# Altium schematic symbol library LSM6DSO.SchLib: 1 symbol
Pins are listed as number, name and electrical type; pins without a type are passive.

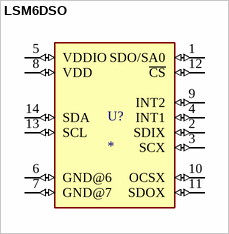
[diagram p0: symbol LSM6DSO]

## LSM6DSO
designator U?
SPARKFUN 6 DEGREES OF FREEDOM BR; MF: STMicroelectronics; MP: LSM6DSO; SnapEDA_Link: https://www.snapeda.com/parts/LSM6DSO/STMicroelectronics/view-part/?ref=snap; Purchase-URL: https://pricing.snapeda.com/search/part/LSM6DSO/?ref=eda; Price: None; Availability: In Stock; Package: None; Check_prices: https://www.snapeda.com/parts/LSM6DSO/STMicroelectronics/view-part/?ref=eda; Value: *
footprint LGA14L
pins: 1 SDO/SA0 (io), 2 SDIX (io), 3 SCX (io), 4 INT1 (io), 5 VDDIO (io), 6 GND@6 (io), 7 GND@7 (io), 8 VDD (io), 9 INT2 (io), 10 OCSX (io), 11 SDOX (io), 12 ~{CS} (io), 13 SCL (io), 14 SDA (io)